# Altium footprint library FerriteBead.PcbLib: 1 footprints
Each footprint in its own frame and in the unit in brackets; x right, y up, seen from the top. Pads: shape width x height; smd on the part's side, far side on the other; paste and mask are expansions set on the pad; w line width, h text height; cw(c..) or ccw(c..) is an arc to the next point about the centre after c.
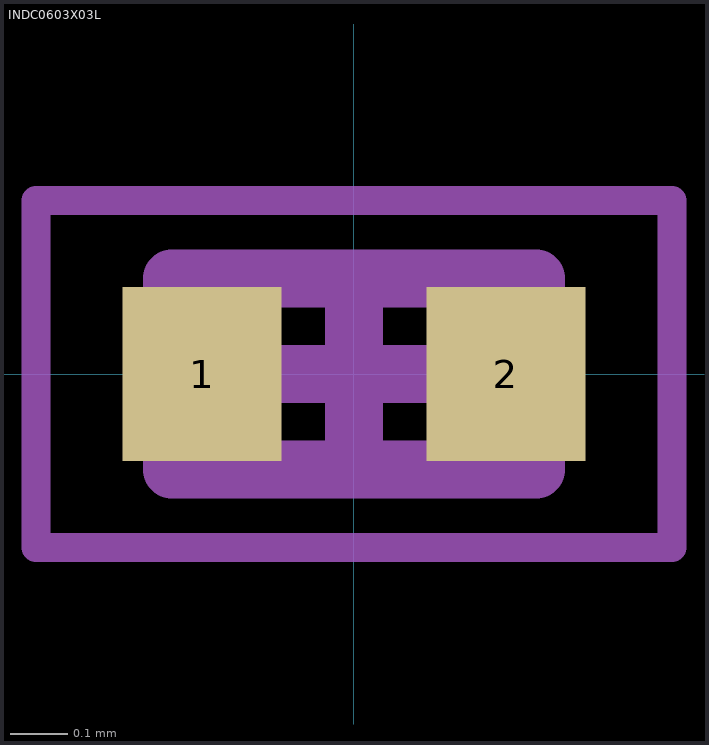
[diagram p0: the footprint, top view; thin cyan lines are the x and y axes]

## INDC0603X03L [mm] "Chip Inductor, 2-Leads, Body 0.60x0.30mm, IPC High Density"
height 0.3
pads (2):
  rect 0.275x0.3 smd: 1(-0.262,0) 2(0.263,0)
Mechanical 13:
  lines w0.1: -0.315,-0.165 0.315,-0.165 0.315,0.165 -0.315,0.165 -0.315,-0.165
Mechanical 15:
  lines w0.05: -0.55,-0.3 0.55,-0.3 0.55,0.3 -0.55,0.3 -0.55,-0.3
  lines w0.1: -0.165,0 0.165,0 ; 0,-0.165 0,0.165
3D body "INDC0603X03L.step": height 0.3, standoff 0, extent -0.315,-0.165 0.315,0.165